# Altium schematic symbol library Passive.SchLib: 16 symbols
Pins are listed as number, name and electrical type; pins without a type are passive.

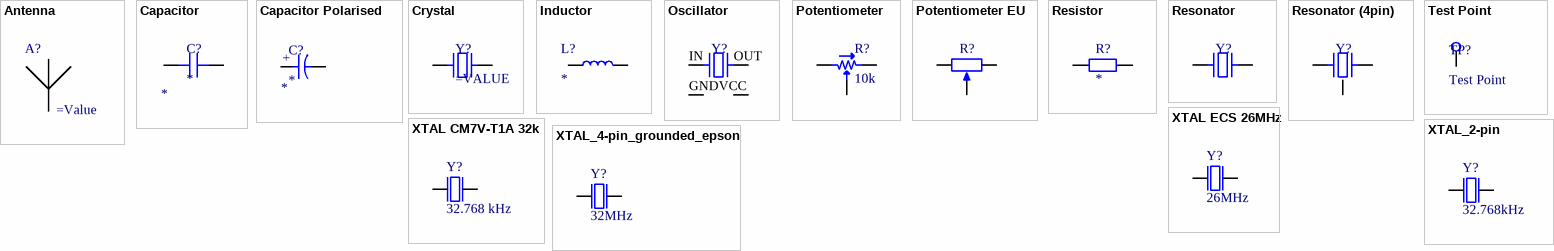
[diagram p0: symbols Antenna to XTAL_4-pin_grounded_epson]

## Antenna
designator A?
footprint 2450AT18B100
pins: 1

## Capacitor
designator C?
SMD Capacitor; Value: *
footprint CAP 0603 (Chip Capacitor, 2-Leads)
footprint CAP 1206 (Chip Capacitor, 2-Leads)
footprint CAP 0402 (Chip Capacitor, 2-Leads, Body 1.0x0.5mm, IPC High Density)
footprint CAP 0805
pins: 1, 2

## Capacitor Polarised
designator C?
SMD/THT Capacitor; Value: *
footprint CAP THT 2.5mm (THT Capacitor, polarised, pitch 2.5mm)
pins: 1, 2
text: +

## Crystal
designator Y?
SMD Crystal
pins: 1, 4

## Inductor
designator L?
SMD Inductor; Value: *
footprint INDC 0402 (Chip Inductor, 2-Leads, Body 1.0x0.5mm, IPC High Density)
footprint INDC 0603 (Chip Inductor, 2-Leads, Body 1.6x0.8mm, IPC High Density)
pins: 1, 2

## Oscillator
designator Y?
Oscillator
pins: 1, 2 VCC, 3, 4 GND
text: IN; OUT

## Potentiometer
designator R?, comment 10k
Potentiometer; Value: 10k
pins: 1, 2, 3

## Potentiometer EU
designator R?  (value not drawn)
Potentiometer; Value: *
pins: 1 TOP, 2 TAP, 3 BOT
1 alternate drawing of the same symbol

## Resistor
designator R?
SMD Resistor; Value: *
footprint RES 0603 (Chip Resistor, 2-Leads)
footprint RES 1206 (Chip Resistor, 2-Leads)
footprint RES 0402 (Chip Resistor, 2-Leads, Body 1.0x0.5mm, IPC High Density)
pins: 1, 2

## Resonator
designator Y?
Resonator
footprint RESONATOR CFPX–217 (RESONATOR, CFPX–217, 32k)
pins: 1, 2

## Resonator (4pin)
designator Y?
Resonator
footprint RESONATOR ILCX13 (RESONATOR, ILCX13, 20MHz)
pins: 1, 2, 3, 4

## Test Point
designator TP?
footprint TP THT 70MILS
footprint TP THT 48MILS
footprint TP SMD 3x5 (mm)
pins: 1 TP

## XTAL CM7V-T1A 32k
designator Y?, comment 32.768 kHz
Tuning Fork Crystal 32.768 kHz; Manufacturer: Micro Crystal; Manufacturer Part Number: CM7V-T1A-32.768K-7PF-20PPM-TC-QA; Supplier 1: Mouser; Stock 1: 1553; Pricing 1: 1 = 0.51000, 10 = 0.39000, 100 = 0.34000, 500 = 0.33000, 1000 = 0.25000, 2000 = 0.23000 (USD); RoHS: No; Supplier Part Number 1: 428-201573-MG01; Value: 32.768 kHz
footprint XTAL_3215 (XTAL SMD 3.2 x 1.5 mm)
pins: 1 in1, 2 in2

## XTAL ECS 26MHz
designator Y?, comment 26MHz
Crystals CRYSTAL 26MHZ 9pF +/- 10ppm +/- 10ppm -30 C ~ 85 C; Manufacturer: ECS International; Manufacturer Part Number: ECS-260-9-33B-CKY-TR; Supplier 1: Digi-Key; Stock 1: 2000; Pricing 1: 1 = 0.39000, 10 = 0.32500, 50 = 0.29260, 100 = 0.26000, 500 = 0.24700 (USD); Supplier Part Number 1: 50-ECS-260-9-33B-CKY-CT-ND; Value: 26MHz
footprint ECS-XTAL (Crystal 3.2 x 2.5 mm)
pins: 1 inp, 2 GND hidden to GND, 3 out, 4 GND hidden to GND

## XTAL_2-pin
designator Y?, comment 32.768kHz
EPSON TOYOCOM - FC-135 32.768KHZ ±20PPM,9.0PF - CRYSTAL, SM, WATCH; Part Number: XTAL_FC-135 32.768k; 2nd source part number: 127-8037; Note: XTAL SMD 32.768kHz, 3215; Artikkelnr Noca: 22019091; Artikkelnr Simpro: N.A.; Manufacturer: Epson Toyocom; Manufacturer Part Number: FC-135 32.768KHZ ±20PPM,9.0PF; Datasheet: http://www.farnell.com/datasheets/57480.pdf; LatestRevisionDate: 2014-03-27; Pin Count: 2; Publisher: Nordic Semiconductor; Published: 2010-10-18; Value: 32.768kHz; Supplier: Digi-Key; Supplier part number: FC-135 32.7680KA-AC-ND; 2nd source Supplier: Farnell; Footprint Doc: XTAL_3215
footprint XTAL_3215
pins: 1 inp, 2 out

## XTAL_4-pin_grounded_epson
designator Y?, comment 32MHz
XTAL SMD 2016, 32MHz, Cl=8pF, Tol: ±10ppm, Stab: ±10ppm; Part Number: XTAL_SMD2016_32MHz_8pF_Epson; Manufacturer: Epson Toyocom; Manufacturer Part Number: Q22FA12800025; Note: XTAL SMD 32.000MHz; Artikkelnr Noca: N.A.; Datasheet: http://www.epsondevice.com/docs/qd/en/DownloadServlet?id=ID000449; LatestRevisionDate: 2014-11-27; Pin Count: 4; Publisher: Nordic Semiconductor; Published: 2012-03-09; Value: 32MHz; Supplier: Farnell; Supplier part number: 171-2806; 2nd source Supplier: *; 2nd source part number: *; Footprint Doc: XTAL_2016; Artikkelnr Simpro: N.A.
footprint BT-XTAL_2016
pins: 1 inp, 2 GND hidden to GND, 3 out, 4 GND hidden to GND